# EAGLE library part CD74HCT4067M (library CD74HCT4067M)
High-speed CMOS 16-channel analog multiplexer & demultiplexer with TTL inputs Source: Datasheet <http://www.ti.com/lit/gpn/cd74hct4067>
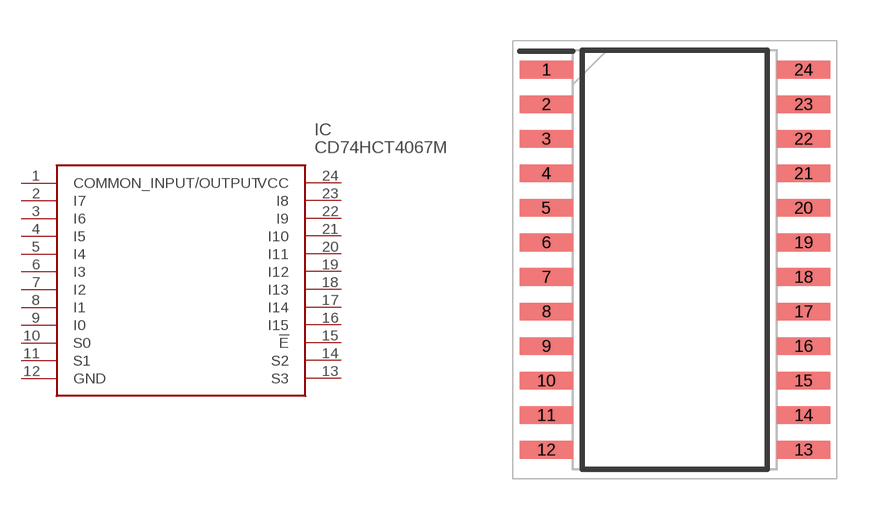
[diagram p0: symbol with the pads of SOIC127P1030X265-24N; footprint SOIC127P1030X265-24N]

Designator prefix IC

## CD74HCT4067M (Description: High-speed CMOS 16-channel analog multiplexer & demultiplexer with TTL inputs; Height: 2.65mm; Manufacturer_Name: Texas Instruments; Manufacturer_Part_Number: CD74HCT4067M; Mouser_Part_Number: 595-CD74HCT4067M; Mouser_Price-Stock: https://www.mouser.co.uk/ProductDetail/Texas-Instruments/CD74HCT4067M?qs=vul0MlC%2Fa1fex%2F7NLRWpgQ%3D%3D)  [SOIC127P1030X265-24N]
1  COMMON_INPUT/OUTPUT
2  I7
3  I6
4  I5
5  I4
6  I3
7  I2
8  I1
9  I0
10  S0
11  S1
12  GND
13  S3
14  S2
15  !E
16  I15
17  I14
18  I13
19  I12
20  I11
21  I10
22  I9
23  I8
24  VCC

## Footprint SOIC127P1030X265-24N (pad centres in mm)
CD74HCT4067M
smd 1.95 x 0.65: 1 -4.725,6.985; 2 -4.725,5.715; 3 -4.725,4.445; 4 -4.725,3.175; 5 -4.725,1.905; 6 -4.725,0.635; 7 -4.725,-0.635; 8 -4.725,-1.905; 9 -4.725,-3.175; 10 -4.725,-4.445; 11 -4.725,-5.715; 12 -4.725,-6.985; 13 4.725,-6.985; 14 4.725,-5.715; 15 4.725,-4.445; 16 4.725,-3.175; 17 4.725,-1.905; 18 4.725,-0.635; 19 4.725,0.635; 20 4.725,1.905; 21 4.725,3.175; 22 4.725,4.445; 23 4.725,5.715; 24 4.725,6.985